# Altium schematic symbol library Un_interruptable_power_supply_180534N.SCHLIB: 17 symbols
Pins are listed as number, name and electrical type; pins without a type are passive.

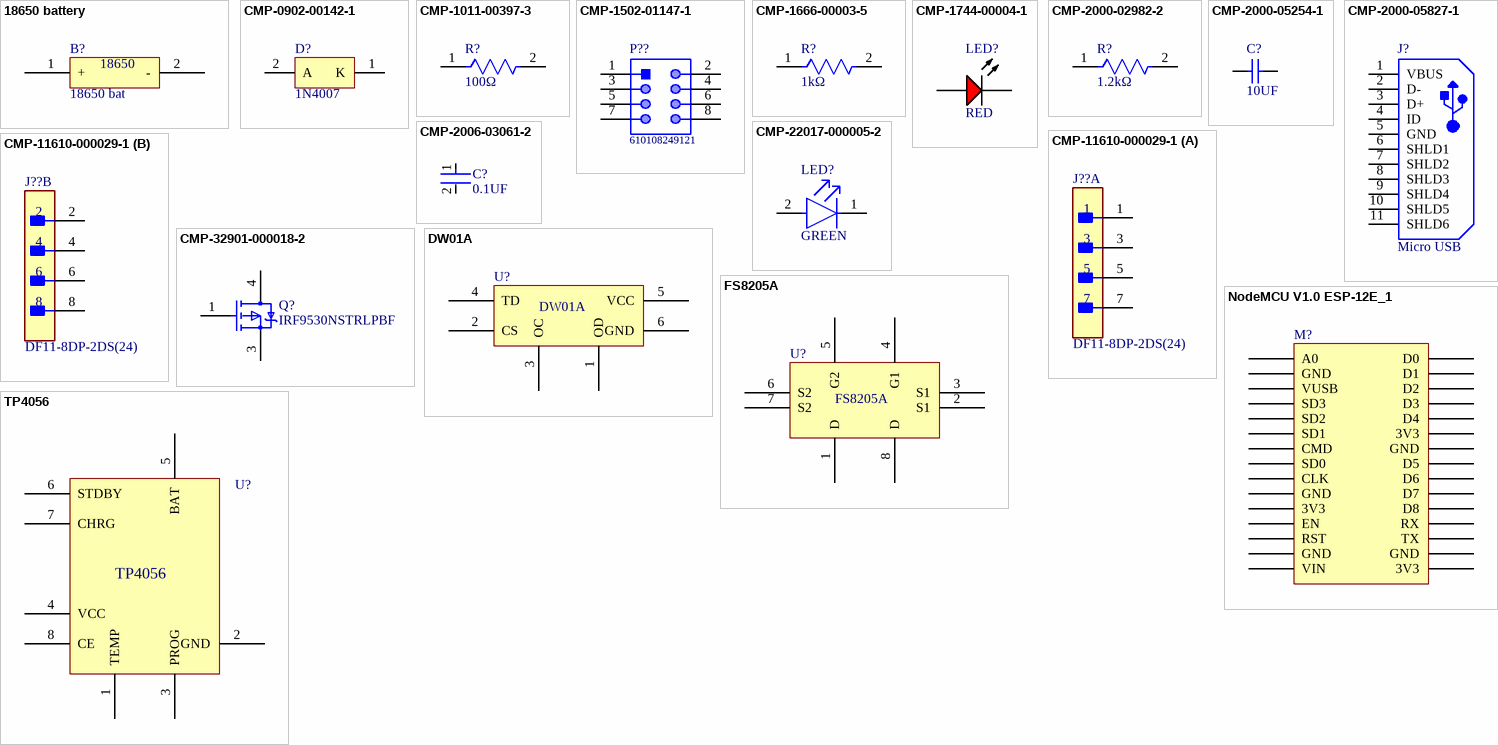
[diagram p0: symbols 18650 battery to TP4056]

## 18650 battery
designator B?, comment 18650 bat
footprint 18650 Battery connect
pins: 1 + (power), 2 - (power)
text: 18650

## CMP-0902-00142-1
designator D?, comment 1N4007
Standard Recovery Rectifier, 2-Pin Axial_Lead, Pb-Free, Bulk Bag; Manufacturer: On Semiconductor; Manufacturer: ON Semiconductor / Fairchild; IO(rec) Max (A): 1; IFSM Max (A): 30; VRRM Max (V): 1000; ComponentLink3URL: http://www.onsemi.cn/pub_link/Collateral/59-10.PDF; PackageVersion: Rev. U, 02/2005; PackageDescription: 2-Pin, Axial Lead, Diameter 2.35 mm; PackageReference: AXIAL_LEAD-2-59-10; RoHS: TRUE; PartNumber: 1N4007; Packing: Bulk Bag; DatasheetVersion: Rev. 13; ComponentLink3Description: Package Specification; ComponentLink1Description: Manufacturer URL; ComponentLink2URL: http://www.onsemi.com/pub_link/Collateral/1N4001-D.PDF; ComponentLink1URL: http://www.onsemi.com/; Type: Standard Recovery; ComponentLink2Description: Datasheet; Mounting Technology: Through Hole; Manufacturer Part Number: 1N4007
footprint ONSC-AXIAL_LEAD-2-59-10_P (AXIAL, 2-Leads, Diameter 2.35mm)
pins: 1 K, 2 A

## CMP-1011-00397-3
designator R?, comment 100Ω
RES Thick Film, 100Ω, 1%, 0.063W, 100ppm/°C, 0402; Manufacturer: Vishay Dale; Manufacturer Part Number: CRCW0402100RFKED; Manufacturer: Yageo; Manufacturer Part Number: RC0402FR-07100RL; Manufacturer: Panasonic; Manufacturer Part Number: ERJ-2RKF1000X; Manufacturer Part Number: CRCW0402100RFKTD; Manufacturer: Bourns; Manufacturer Part Number: CR0402-FX-1000GLF; Max Power Dissipation: 63mW; Voltage Rating: 50V; Resistance: 100R; Package Quantity: 10; Lead Free: Lead Free; Termination: SMD/SMT; Case Code (Metric): 1005; Number of Terminations: 2; Composition: Thick Film; Voltage Rating (DC): 50V; Min Operating Temperature: -55°C; Case/Package: 0402; Radiation Hardening: No; Max Operating Temperature: 155°C; Temperature Coefficient: 100ppm/°C; Military Standard: Not; Length: 1mm; Mount: Surface Mount; Power Rating: 63mW; Weight: 2.3E-05oz; Working Voltage: 50V; Features: Automotive AEC-Q200; Depth: 0.5mm; Packaging: Tape and Reel; Tolerance: 1%; Height: 0.35mm; Case Code (Imperial): 0402; Width: 0.02inch; Contact Plating: Tin
footprint FP-CRCW0402-e3-IPC_C
footprint FP-CRCW0402-e3-IPC_B
footprint FP-CRCW0402-e3-IPC_A
footprint FP-CRCW0402-e3-MFG
pins: 1, 2

## CMP-1502-01147-1
designator P??, comment 610108249121
SMT Angled Pin Header WR-PHD, Pitch 2.54 mm, Dual Row, 8 pins; Manufacturer: Wurth Elektronik; Manufacturer: Wurth Electronics; Pitch: 2.54mm; Working Voltage: 250VAC; Rated Current: 3A; Pin Number: 8; Gender: Male; Contact Resistance: 20mOhm; Withstanding Voltage: 600VAC; Row Number: Dual; Operating Temperature: -40to105degC; Part Number: 610108249121; Publisher: WurthElektronik; Datasheet URL: https://katalog.we-online.de/em/datasheet/6101xx249121.pdf; Package Reference: 610108249121; Manufacturer URL: http://www.we-online.de; Orientation: Angled; Mounting Technology: SMT; Packaging: TapeandReel; Manufacturer Part Number: 610108249121
footprint 610108249121 (Pin Header, pitch 2.54 mm, SMD, Angled, dual row, 8p)
pins: 1, 2, 3, 4, 5, 6, 7, 8

## CMP-1666-00003-5
designator R?, comment 1kΩ
RES Thick Film, 1kΩ, 1%, 0.1W, 100ppm/°C, 0603; Manufacturer: Vishay Dale; Manufacturer Part Number: CRCW06031K00FKEA; Max Power Dissipation: 100mW; Voltage Rating: 75V; Resistance: 1kR; Max Operating Temperature: 155°C; Number of Pins: 2; Case Code (Imperial): 0603; Width: 0.033inch; Power Rating: 100mW; Number of Terminations: 2; Package Quantity: 10; Weight: 7.1E-05oz; Tolerance: 1%; Temperature Coefficient: 100ppm/°C; Military Standard: Not; Mount: Surface Mount; Voltage Rating (DC): 75V; Depth: 0.85mm; Composition: Thick Film; Radiation Hardening: No; Termination: SMD/SMT; Length: 1.55mm; Case Code (Metric): 1608; Contact Plating: Tin; Min Operating Temperature: -55°C; Packaging: Tape and Reel; Height: 0.45mm; Lead Free: Lead Free; Case/Package: 0603; Features: Automotive AEC-Q200
footprint FP-CRCW0603-e3-MFG
footprint FP-CRCW0603-e3-IPC_A
footprint FP-CRCW0603-e3-IPC_C
footprint FP-CRCW0603-e3-IPC_B
pins: 1, 2

## CMP-1744-00004-1
designator LED?, comment RED
LED Uni-Color Red, 65 mW, 20 mA, -40 to 85 degC, 2-Pin SMD, RoHS, Tape and Reel; Manufacturer: Broadcom Avago; Manufacturer Part Number: HSMH-C190; Connector Type: USB; Gender: Male; Current Rating: 1 A; Length: 7.5 mm; Lead Pitch: 0.65 mm; PackageReference: HSMX-C190; Package Quantity: 2000; Max Operating Temperature: 85 degC; PackageDescription: 2-Pin Surface Mount Device, Body 1.6 x 0.8 mm, Height 0.9 mm; ComponentLink3Description: Package Specification; Mount: Surface Mount; Min Operating Temperature: -30 degC; ComponentLink3URL: http://www.fairchildsemi.com/dwg/MA/MA03D.pdf; ComponentLink1Description: Manufacturer URL; Contact Material: Copper; Pins: 5; Width: 5.6 mm; ComponentLink2Description: Datasheet; RoHSCompliant: true; DatasheetVersion: Mar-12; Height: 2.8 mm; Packaging: Tape and Reel; Contact Plating: Gold; ComponentLink1URL: http://www.avagotech.com/; REACH SVHC: No SVHC; ComponentLink2URL: http://docs.avagotech.com/docs/AV02-0551EN
footprint AVAG-HSMX-C190_V (SMD, 2-Leads, Body 1.6x0.8mm, Height 0.9mm)
pins: 1 A, 2 K

## CMP-2000-02982-2
designator R?, comment 1.2kΩ
RES Thick Film, 1.2kΩ, 1%, 0.1W, 100ppm/°C, 0603; Manufacturer: Vishay; Manufacturer Part Number: CRCW06031K20FKEA; Max Power Dissipation: 100mW; Resistance: 1.2kR; Voltage Rating: 75V; Package Quantity: 10; Weight: 7.1E-05oz; Packaging: Tape and Reel; Max Operating Temperature: 155°C; Case/Package: 0603; Case Code (Imperial): 0603; Length: 1.55mm; Width: 0.033inch; Radiation Hardening: No; Power Rating: 100mW; Depth: 0.85mm; Military Standard: Not; Case Code (Metric): 1608; Tolerance: 1%; Termination: SMD/SMT; Temperature Coefficient: 100ppm/°C; Mount: Surface Mount; Min Operating Temperature: -55°C; Lead Free: Lead Free; Contact Plating: Tin; Composition: Thick Film; Voltage Rating (DC): 75V; Features: Automotive AEC-Q200; Height: 0.45mm; Number of Terminations: 2
footprint FP-CRCW0603-e3-MFG
footprint FP-CRCW0603-e3-IPC_A
footprint FP-CRCW0603-e3-IPC_B
footprint FP-CRCW0603-e3-IPC_C
pins: 1, 2

## CMP-2000-05254-1
designator C?, comment 10UF
CAP, Ceramic, 10 uF, 10%, 10 V, 0805, RoHS, Tape and Reel; Manufacturer: Murata; Manufacturer Part Number: GRM21BR61A106KE19L; Voltage - Rated: 10V; Product Training Modules: High-CapMultilayerCeramicCapacitors; Catalog Drawings: GRMSeries_0805_1.25; Temperature Coefficient: X5R; Online Catalog: GRMSeries; Featured Product: GA3SafetyRecognizedCapsandHi-CapMLCC; Capacitance: 10µF; Other Names: 490-1709-6; Applications: GeneralPurpose; Category: Capacitors; Datasheet Version: Aug-14; Datasheet URL: https://datasheet.ciiva.com/3777/210grm21br61a106ke1923-3777175.pdf; Ratings: -; Height - Seated (Max): -; Lead Spacing: -; Operating Temperature: -55degC~85degC; Features: -; Package Description: 2-Pin Surface Mount Device (0805), Body 2.1 x 1.35 mm; Standard Package: 1; Mounting Type: SurfaceMount,MLCC; Package Reference: 805; Tolerance: ±10%; Manufacturer URL: http://www.murata.com/; Size / Dimension: 0.079"Lx0.049"W(2.00mmx1.25mm); Packaging: Digi-Reel; Thickness (Max): 0.053"(1.35mm); Package / Case: 0805(2012Metric); Family: CeramicCapacitors; Series: GRM; Lead Style: -
footprint MURA-0805_H_1.35_M (SMD, 2-Leads, Body 2.1x1.35mm, IPC Low Density)
footprint MURA-0805_H_1.35_N (SMD, 2-Leads, Body 2.1x1.35mm, IPC Medium Density)
footprint MURA-0805_H_1.35_L (SMD, 2-Leads, Body 2.1x1.35mm, IPC High Density)
pins: 1, 2

## CMP-2000-05827-1
designator J?, comment Micro USB
Micro-USB B Receptacle, Right Angle, Bottom Mount, Surface Mount, with Solder Tabs, -30 to 85 degC, 5-Pin USB, RoHS, Tape and Reel; Manufacturer: Molex; Featured Product: Micro-USBConnectorsUSBConnectors; Other Names: WM1399DKR; Package Version: Rev. F, 12/2012; Number of Contacts: 5; Connector Type: USB-microB; Catalog Drawings: 1050170001; 3D Model: 105017-0001.stp; Mating Products: WM17145-ND-CABLEMICROUSBBTOSTDA1.0MWM17147-ND-CABLEMICROUSBBTOSTDA2.0MWM17146-ND-CABLEMICROUSBBTOSTDA1.5M; PCN Assembly/Origin: ResinSupplier21/Oct/2015; Voltage - Max: 30V; Online Catalog: Molex-MicroUSB; Manufacturer URL: http://www.molex.com/; Package Description: 5-Leads USB, Micro B, Body 7.5 x 5 mm, Pitch 0.65 mm; Datasheet URL: http://www.molex.com/elqNow/elqRedir.htm?ref=http://www.molex.com/webdocs/datasheets/pdf/en-us/1050170001_IO_CONNECTORS.pdf; Ingress Protection: -; Datasheet Version: 03/2016; Mounting Type: BoardCutout,SurfaceMount,RightAngle; Circuits: 5; Standard Package: 1; Package Reference: MICRO-B; Package URL: http://www.molex.com/pdm_docs/sd/1050170001_sd.pdf; Category: Connectors,Interconnects; Series: -; RoHS Information: 1050170001CertofCompliance; Features: Shielded,SolderRetention; Family: USB,DVI,HDMIConnectors; Specifications: -; Gender: Receptacle; Packaging: Digi-Reel®; Mounting Technology: SurfaceMount; Manufacturer Part Number: 1050170001
footprint USB-MICRO-B_V (USB, MICRO B, Body 7.491x4.695 mm, Pitch 0.65 mm)
pins: 1 VBUS, 2 D-, 3 D+, 4 ID, 5 GND, 6 SHLD1, 7 SHLD2, 8 SHLD3, 9 SHLD4, 10 SHLD5, 11 SHLD6

## CMP-2006-03061-2
designator C?, comment 0.1UF
CAP CER 0.1UF 50V X7R 0603; Manufacturer: KEMET; Manufacturer Part Number: C0603C104K5RACTU; Tolerance: 0.1; Temperature Coefficient: 30ppm/°C; Material: Ceramic; Automotive Grade: Grade 1; Value: 0.10 μF; Temperature: -55°C to +125°C; RoHS: TRUE; Temperature Range High: +125°C; Lead Free: Yes; Octopart: https://octopart.com/c0603c104k5ractu-kemet-139244; Digikey Description: CAP CER 0.1UF 50V X7R 0603; Category: Cap; Package: C0603C-CF; ComponentLink2Description: Datasheet; Temperature Range Low: -55°C; Device Class L1: Passive Components; Voltage Rating: 50 V; Automotive: Yes; Device Class L3: Ceramic Capacitors; ComponentLink2URL: https://api.kemet.com/component-edge/download/datasheet/C0603C100J5GACAUTO.pdf; Capacitance: 0.10 μF; Device Class L2: Capacitors; Temperature Characteristic: X7R; Height: 0.87mm
footprint FP-C0603C-CF-MFG
footprint FP-C0603C-CF-IPC_C
footprint FP-C0603C-CF-IPC_B
footprint FP-C0603C-CF-IPC_A
pins: 1, 2

## CMP-11610-000029-1
designator J??, comment DF11-8DP-2DS(24)
CONN HEADER R/A 8POS 2MM; Manufacturer: Hirose; Gender: Male; Number of Contacts: 8; Max Current Rating: 2A; Row Spacing: 0.079inch; Contact Resistance: 30mR; Voltage Rating: 250V; Connector Type: Male Pin; Length: 10mm; Housing Color: Black; Radiation Hardening: No; RoHS Compliant: Yes; Lead Free: Lead Free; Housing Material: Polyamide; Series: DF11; Contact Mating Length: 0.118inch; Contact Gender: Male; Package Quantity: 48; Max Operating Temperature: 85°C; Number of Positions: 8; Current Rating: 2A; Flammability Rating: UL94 V-0; Orientation: Right Angle; Packaging: Rail/Tube; Contact Type: Male Pin; Number of Rows: 2; Mount: Through Hole; Color: Black; Min Operating Temperature: -30°C; Depth: 10mm; Fastening Type: Detent; Pitch: 2mm; Contact Plating: Tin; Termination: Solder; REACH SVHC: No SVHC; Contact Material: Brass; Manufacturer Part Number: DF11-8DP-2DS(24)
footprint FP-DF11-8DP-2DS_24-MFG
part A pins: 1, 3, 5, 7
part B pins: 2, 4, 6, 8

## CMP-22017-000005-2
designator LED?, comment GREEN
LED GREEN CLEAR CHIP SMD; Manufacturer: Vishay Lite-On; Manufacturer Part Number: LTST-C190GKT; Dominant Wavelength: 569nm; Reverse Voltage: 5V; Lens Color: Colorless; Viewing Angle: 130°; Voltage: 2V; Forward Current: 30mA; Power Dissipation: 100mW; Luminous Intensity: 6mcd; Number of LEDs: 1; Forward Voltage: 2.1V; Wavelength: 565nm; Test Current: 10mA; Min Operating Temperature: -55°C; Lens Style: Clear; Mount: Surface Mount; Width: 0.8mm; Packaging: Tape and Reel; Lens Transparency: Clear; Case Code (Metric): 1608; Depth: 0.8mm; Case Code (Imperial): 0603; Case/Package: 0603; Number of Pins: 2; Max Operating Temperature: 85°C; Lead Free: Lead Free; Number of Elements: 1; Length: 1.6mm; Height: 0.8mm; Package Quantity: 1; Power Rating: 100mW; Radiation Hardening: No; Illumination Color: Green; Color: Green
footprint FP-LTST-C190GKT-MFG
pins: 1 C, 2 A

## CMP-32901-000018-2
designator Q?, comment IRF9530NSTRLPBF
MOSFET P-CH 100V 14A D2PAK; Manufacturer: Infineon; Drain to Source Voltage (Vdss): -100V; Power Dissipation: 79W; Gate to Source Voltage (Vgs): 20V; Input Capacitance: 760pF; Drain to Source Resistance: 200mR; Turn-On Delay Time: 15ns; Turn-Off Delay Time: 45ns; Rise Time: 58ns; Max Power Dissipation: 3.8W; Halogen Free: Not Halogen Free; Number of Pins: 3; RoHS Compliant: Yes; Width: 0.38inch; Continuous Drain Current (ID): 14A; Length: 0.42inch; Max Operating Temperature: 175°C; Packaging: Tape and Reel; Contact Plating: Tin; Min Operating Temperature: -55°C; Lead Free: Contains Lead; Max Dual Supply Voltage: -100V; Case/Package: D2PAK; Rds On Max: 200mR; Height: 0.19inch; Mount: Surface Mount; Drain to Source Breakdown Voltage: -100V; Manufacturer Part Number: IRF9530NSTRLPBF
footprint FP-PG-TO263-3-MFG
pins: 1 G, 3 S, 4 D

## DW01A
designator U?  (value not drawn)
18650 Battery Protection IC/ Provide over current, over charge and over discharge protection
footprint DW01A - SOT 23-6 PACKAGE
pins: 1 OD "Discharge control MOSFET gate pin", 2 CS "Current sense and charge detect input", 3 OC "Charge control MOSFET gate pin", 4 TD "Delay time reduction test pin", 5 VCC (power) "Power supply pin", 6 GND (power) "Ground pin"

## FS8205A
designator U?  (value not drawn)
Dual N channel MOSFET
footprint FS8205A - TSSOP-8 PACKAGE
pins: 1 D, 2 S1, 3 S1, 4 G1, 5 G2, 6 S2, 7 S2, 8 D

## NodeMCU V1.0 ESP-12E_1
designator M?  (value not drawn)
LoLin NodeMCU V3
footprint LoLin NodeMcu V3
footprint LoLin (+ NodeMCU)
pins: 3V3, 3V3, 3V3, A0, CLK, CMD, D0, D1, D2, D3, D4, D5, D6, D7, D8, EN, GND, GND, GND, GND, GND, RST, RX, SD0, SD1, SD2, SD3, TX, VIN, VUSB

## TP4056
designator U?  (value not drawn)
18650 single cell charge controller/ Constant current, Constant Voltage available/ Max input 4.5V~6V/ Max current 1A/ Float voltage 4.2V
footprint TP4056 IC - SOIC_8 Package
pins: 1 TEMP, 2 GND (power), 3 PROG, 4 VCC (power), 5 BAT (power), 6 STDBY, 7 CHRG, 8 CE